# Altium schematic symbol library SCH - SENSOR - CURRENT - TI INA168NA-3K.SCHLIB: 1 symbol
Pins are listed as number, name and electrical type; pins without a type are passive.

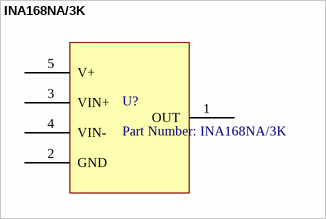
[diagram p0: symbol INA168NA/3K]

## INA168NA/3K
designator U?, comment Part Number: INA168NA/3K
No Description Available; Built_By: EMA_UL_Team; Vendor: Texas Instruments; Manufacturer_Part_Number: INA168NA/3K; Copyright: Copyright (C) 2018 Accelerated Designs. All rights reserved; RefDes: RefDes; Type: DEV; Value: Value
pins: 1 OUT, 2 GND (power), 3 VIN+, 4 VIN-, 5 V+ (power)